# Altium schematic symbol library SFW15R-1STE1LF.Schlib: 1 symbol
Pins are listed as number, name and electrical type; pins without a type are passive.

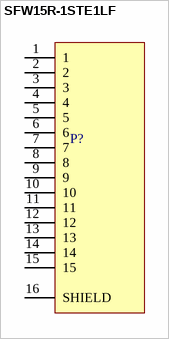
[diagram p0: symbol SFW15R-1STE1LF]

## SFW15R-1STE1LF
designator P?
15 Position FFC, FPC Connector Contacts, Bottom, Surface Mount, Right Angle
pins: 1, 2, 3, 4, 5, 6, 7, 8, 9, 10, 11, 12, 13, 14, 15, 16 SHIELD